# EAGLE library part СНП351-110РПр31-1F-A (library connectors)
РЮМК.430420.015 ТУ Соединитель (розетка) для печатного монтажа методом «пресс-фит» СНП351 предназначен для работы в электрических цепях постоянного, переменного и импульсного токов в радиоэлектронной аппаратуре специального и общепромышленного назначения. Технические условия ОТК: РЮМК.430420.046 ТУ Технические условия ВП: РЮМК.430420.015 ТУ Производитель: АО «Карачевский завод "Электродеталь" 242500 Брянская область, г. Карачев, ул. Горького, 1
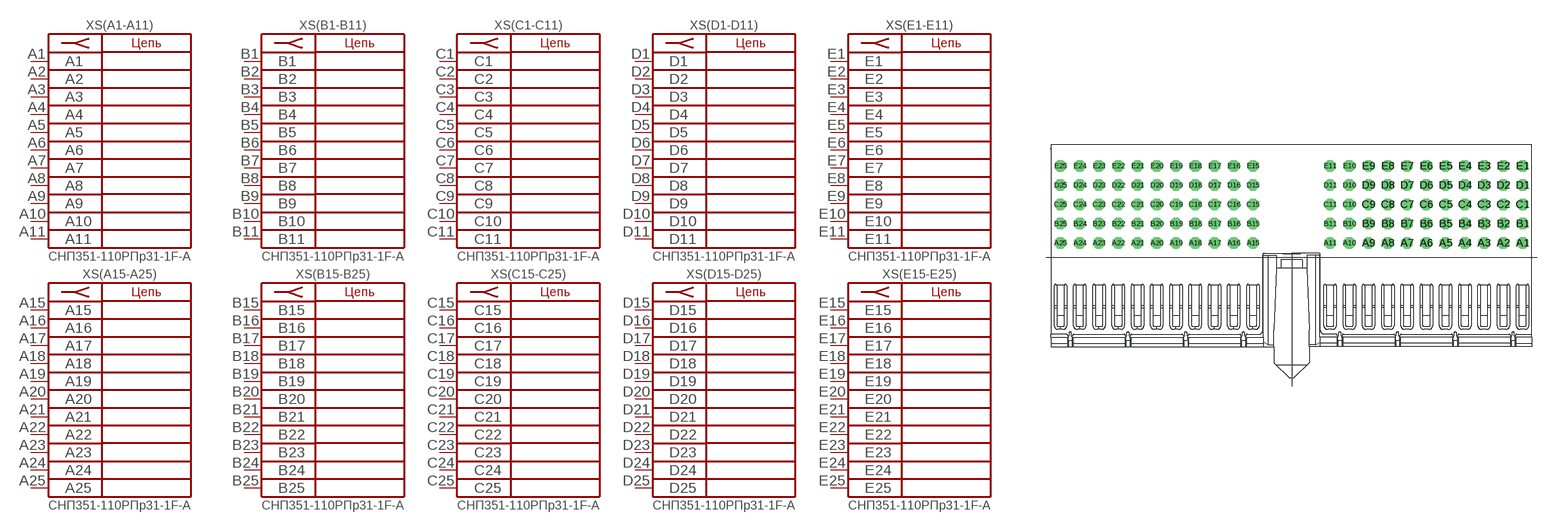
[diagram p7: symbol with the pads of СНП351-110РПр31-1F-A; footprint СНП351-110РПр31-1F-A]

Designator prefix XS; gates (A1-A11)=CONNECTOR_CPCI_A1_11(розетка) (A15-A25)=CONNECTOR_CPCI_A15_25(розетка) (B1-B11)=CONNECTOR_CPCI_B1_11(розетка) (B15-B25)=CONNECTOR_CPCI_B15_25(розетка) (C1-C11)=CONNECTOR_CPCI_C1_11(розетка) (C15-C25)=CONNECTOR_CPCI_C15_C25(розетка) (D1-D11)=CONNECTOR_CPCI_D1_11(розетка) (D15-D25)=CONNECTOR_CPCI_D15_25(розетка) (E1-E11)=CONNECTOR_CPCI_E1_11(розетка) (E15-E25)=CONNECTOR_CPCI_E15_25(розетка)

## СНП351-110РПр31-1F-A  [СНП351-110РПр31-1F-A]
A1  (A1-A11):A1  pas
A2  (A1-A11):A2  pas
A3  (A1-A11):A3  pas
A4  (A1-A11):A4  pas
A5  (A1-A11):A5  pas
A6  (A1-A11):A6  pas
A7  (A1-A11):A7  pas
A8  (A1-A11):A8  pas
A9  (A1-A11):A9  pas
A10  (A1-A11):A10  pas
A11  (A1-A11):A11  pas
A15  (A15-A25):A15  pas
A16  (A15-A25):A16  pas
A17  (A15-A25):A17  pas
A18  (A15-A25):A18  pas
A19  (A15-A25):A19  pas
A20  (A15-A25):A20  pas
A21  (A15-A25):A21  pas
A22  (A15-A25):A22  pas
A23  (A15-A25):A23  pas
A24  (A15-A25):A24  pas
A25  (A15-A25):A25  pas
B1  (B1-B11):B1  pas
B2  (B1-B11):B2  pas
B3  (B1-B11):B3  pas
B4  (B1-B11):B4  pas
B5  (B1-B11):B5  pas
B6  (B1-B11):B6  pas
B7  (B1-B11):B7  pas
B8  (B1-B11):B8  pas
B9  (B1-B11):B9  pas
B10  (B1-B11):B10  pas
B11  (B1-B11):B11  pas
B15  (B15-B25):B15  pas
B16  (B15-B25):B16  pas
B17  (B15-B25):B17  pas
B18  (B15-B25):B18  pas
B19  (B15-B25):B19  pas
B20  (B15-B25):B20  pas
B21  (B15-B25):B21  pas
B22  (B15-B25):B22  pas
B23  (B15-B25):B23  pas
B24  (B15-B25):B24  pas
B25  (B15-B25):B25  pas
C1  (C1-C11):C1  pas
C2  (C1-C11):C2  pas
C3  (C1-C11):C3  pas
C4  (C1-C11):C4  pas
C5  (C1-C11):C5  pas
C6  (C1-C11):C6  pas
C7  (C1-C11):C7  pas
C8  (C1-C11):C8  pas
C9  (C1-C11):C9  pas
C10  (C1-C11):C10  pas
C11  (C1-C11):C11  pas
C15  (C15-C25):C15  pas
C16  (C15-C25):C16  pas
C17  (C15-C25):C17  pas
C18  (C15-C25):C18  pas
C19  (C15-C25):C19  pas
C20  (C15-C25):C20  pas
C21  (C15-C25):C21  pas
C22  (C15-C25):C22  pas
C23  (C15-C25):C23  pas
C24  (C15-C25):C24  pas
C25  (C15-C25):C25  pas
D1  (D1-D11):D1  pas
D2  (D1-D11):D2  pas
D3  (D1-D11):D3  pas
D4  (D1-D11):D4  pas
D5  (D1-D11):D5  pas
D6  (D1-D11):D6  pas
D7  (D1-D11):D7  pas
D8  (D1-D11):D8  pas
D9  (D1-D11):D9  pas
D10  (D1-D11):D10  pas
D11  (D1-D11):D11  pas
D15  (D15-D25):D15  pas
D16  (D15-D25):D16  pas
D17  (D15-D25):D17  pas
D18  (D15-D25):D18  pas
D19  (D15-D25):D19  pas
D20  (D15-D25):D20  pas
D21  (D15-D25):D21  pas
D22  (D15-D25):D22  pas
D23  (D15-D25):D23  pas
D24  (D15-D25):D24  pas
D25  (D15-D25):D25  pas
E1  (E1-E11):E1  pas
E2  (E1-E11):E2  pas
E3  (E1-E11):E3  pas
E4  (E1-E11):E4  pas
E5  (E1-E11):E5  pas
E6  (E1-E11):E6  pas
E7  (E1-E11):E7  pas
E8  (E1-E11):E8  pas
E9  (E1-E11):E9  pas
E10  (E1-E11):E10  pas
E11  (E1-E11):E11  pas
E15  (E15-E25):E15  pas
E16  (E15-E25):E16  pas
E17  (E15-E25):E17  pas
E18  (E15-E25):E18  pas
E19  (E15-E25):E19  pas
E20  (E15-E25):E20  pas
E21  (E15-E25):E21  pas
E22  (E15-E25):E22  pas
E23  (E15-E25):E23  pas
E24  (E15-E25):E24  pas
E25  (E15-E25):E25  pas

## Footprint СНП351-110РПр31-1F-A (pad centres in mm)
drill 0.7 pad 1.016 octagon: A1 24,0; A2 22,0; A3 20,0; A4 18,0; A5 16,0; A6 14,0; A7 12,0; A8 10,0; A9 8,0; A10 6,0; A11 4,0; A15 -4,0; A16 -6,0; A17 -8,0; A18 -10,0; A19 -12,0; A20 -14,0; A21 -16,0; A22 -18,0; A23 -20,0; A24 -22,0; A25 -24,0; B1 24,2; B2 22,2; B3 20,2; B4 18,2; B5 16,2; B6 14,2; B7 12,2; B8 10,2; B9 8,2; B10 6,2; B11 4,2; B15 -4,2; B16 -6,2; B17 -8,2; B18 -10,2; B19 -12,2; B20 -14,2; B21 -16,2; B22 -18,2; B23 -20,2; B24 -22,2; B25 -24,2; C1 24,4; C2 22,4; C3 20,4; C4 18,4; C5 16,4; C6 14,4; C7 12,4; C8 10,4; C9 8,4; C10 6,4; C11 4,4; C15 -4,4; C16 -6,4; C17 -8,4; C18 -10,4; C19 -12,4; C20 -14,4; C21 -16,4; C22 -18,4; C23 -20,4; C24 -22,4; C25 -24,4; D1 24,6; D2 22,6; D3 20,6; D4 18,6; D5 16,6; D6 14,6; D7 12,6; D8 10,6; D9 8,6; D10 6,6; D11 4,6; D15 -4,6; D16 -6,6; D17 -8,6; D18 -10,6; D19 -12,6; D20 -14,6; D21 -16,6; D22 -18,6; D23 -20,6; D24 -22,6; D25 -24,6; E1 24,8; E2 22,8; E3 20,8; E4 18,8; E5 16,8; E6 14,8; E7 12,8; E8 10,8; E9 8,8; E10 6,8; E11 4,8; E15 -4,8; E16 -6,8; E17 -8,8; E18 -10,8; E19 -12,8; E20 -14,8; E21 -16,8; E22 -18,8; E23 -20,8; E24 -22,8; E25 -24,8